# Altium footprint library 2.54MM_弯针.PcbLib: 19 footprints (part 1 of 2)
Each footprint in its own frame and in the unit in brackets; x right, y up, seen from the top. Pads: shape width x height; smd on the part's side, far side on the other; paste and mask are expansions set on the pad; w line width, h text height; cw(c..) or ccw(c..) is an arc to the next point about the centre after c.
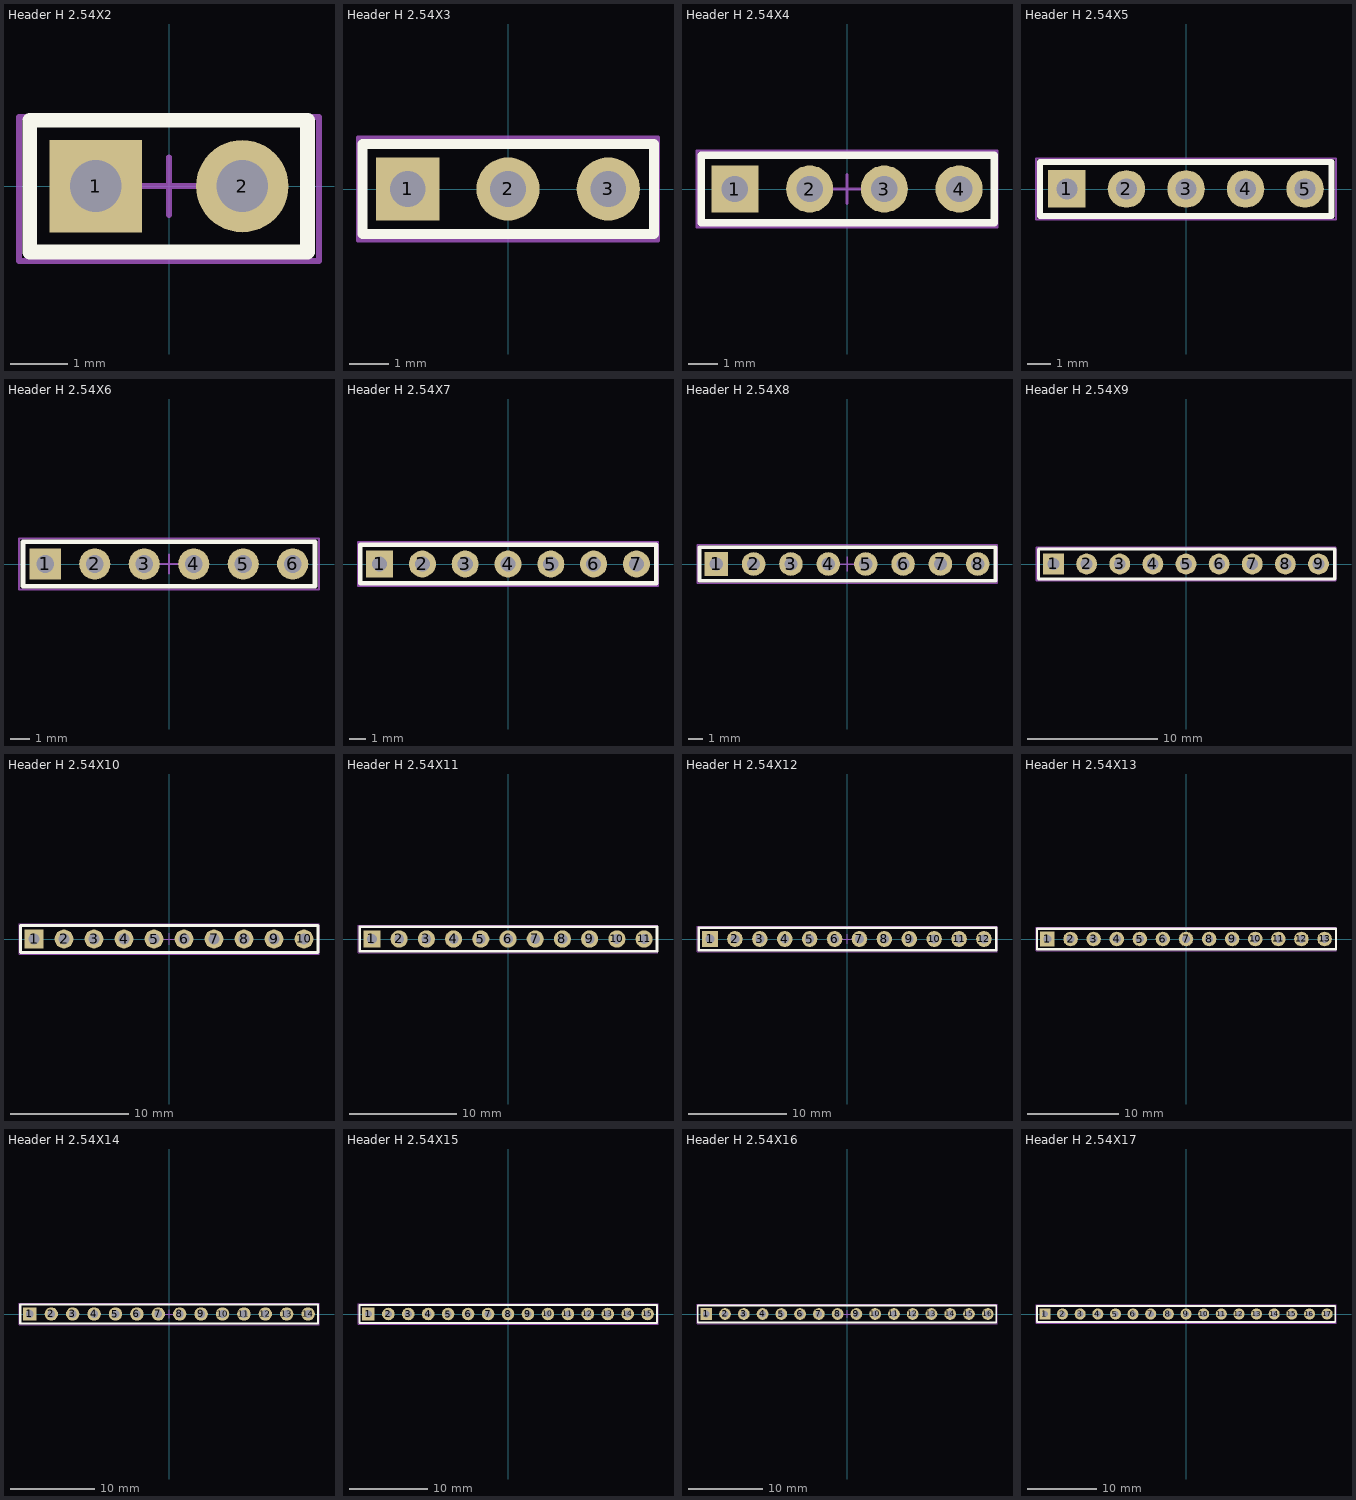
[diagram p0: the footprints below, top view; thin cyan lines are the x and y axes]

## Header H 2.54X2 [mm]
pads (2):
  rect 1.6x1.6 hole 0.9: 1(-1.27,0)
  round 1.6 hole 0.9: 2(1.27,0)
Top Overlay:
  lines w0.254: -2.413,-1.143 -2.413,1.143 2.4,1.143 2.4,-1.143 -2.413,-1.143
Mechanical 15:
  lines w0.1: -0.5,0 0.5,0 ; 0,-0.5 0,0.5 ; -2.6,-1.3 -2.6,1.2 2.6,1.2 2.6,-1.3 -2.6,-1.3
3D body "HEADER 2H.STEP": height 4.43, standoff -2.9, extent -2.54,-1.27 2.54,7

## Header H 2.54X3 [mm]
pads (3):
  rect 1.6x1.6 hole 0.9: 1(-2.54,0)
  round 1.6 hole 0.9: 2(0,0) 3(2.54,0)
Top Overlay:
  lines w0.254: -3.683,-1.143 3.7,-1.143 3.7,1.143 -3.683,1.143 -3.683,-1.143
Mechanical 15:
  lines w0.1: -3.8,-1.3 3.8,-1.3 3.8,1.3 -3.8,1.3 -3.8,-1.3
3D body "HEADER 3H.STEP": height 4.43, standoff -2.9, extent -3.81,-1.26 3.81,7.01

## Header H 2.54X4 [mm]
pads (4):
  rect 1.6x1.6 hole 0.9: 1(-3.81,0)
  round 1.6 hole 0.9: 2(-1.27,0) 3(1.27,0) 4(3.81,0)
Top Overlay:
  lines w0.254: -4.953,-1.143 5,-1.143 5,1.143 -4.953,1.143 -4.953,-1.143
Mechanical 15:
  lines w0.1: -0.5,0 0.5,0 ; 0,-0.5 0,0.5 ; -5.1,-1.3 5.1,-1.3 5.1,1.3 -5.1,1.3 -5.1,-1.3
3D body "HEADER 4H.STEP": height 4.43, standoff -2.9, extent -5.08,-1.27 5.08,7

## Header H 2.54X5 [mm]
pads (5):
  rect 1.6x1.6 hole 0.9: 1(-5.08,0)
  round 1.6 hole 0.9: 2(-2.54,0) 3(0,0) 4(2.54,0) 5(5.08,0)
Top Overlay:
  lines w0.254: -6.223,-1.143 6.2,-1.143 6.2,1.143 -6.223,1.143 -6.223,-1.143
Mechanical 15:
  lines w0.1: -6.4,-1.3 6.4,-1.3 6.4,1.3 -6.4,1.3 -6.4,-1.3
3D body "HEADER 5H.STEP": height 4.43, standoff -2.9, extent -6.35,-1.26 6.35,7.01

## Header H 2.54X6 [mm]
pads (6):
  rect 1.6x1.6 hole 0.9: 1(-6.35,0)
  round 1.6 hole 0.9: 2(-3.81,0) 3(-1.27,0) 4(1.27,0) 5(3.81,0) 6(6.35,0)
Top Overlay:
  lines w0.254: -7.493,-1.143 7.5,-1.143 7.5,1.143 -7.493,1.143 -7.493,-1.143
Mechanical 15:
  lines w0.1: -0.5,0 0.5,0 ; 0,-0.5 0,0.5 ; -7.7,-1.3 7.7,-1.3 7.7,1.3 -7.7,1.3 -7.7,-1.3
3D body "HEADER 6H.STEP": height 4.43, standoff -2.9, extent -7.62,-1.27 7.62,7

## Header H 2.54X7 [mm]
pads (7):
  rect 1.6x1.6 hole 0.9: 1(-7.62,0)
  round 1.6 hole 0.9: 2(-5.08,0) 3(-2.54,0) 4(0,0) 5(2.54,0) 6(5.08,0) 7(7.62,0)
Top Overlay:
  lines w0.254: -8.763,-1.143 8.8,-1.143 8.8,1.143 -8.763,1.143 -8.763,-1.143
Mechanical 15:
  lines w0.1: -8.9,-1.3 8.9,-1.3 8.9,1.3 -8.9,1.3 -8.9,-1.3
3D body "HEADER 7H.STEP": height 4.43, standoff -2.9, extent -8.89,-1.26 8.89,7.01

## Header H 2.54X8 [mm]
pads (8):
  rect 1.6x1.6 hole 0.9: 1(-8.89,0)
  round 1.6 hole 0.9: 2(-6.35,0) 3(-3.81,0) 4(-1.27,0) 5(1.27,0) 6(3.81,0) 7(6.35,0) 8(8.89,0)
Top Overlay:
  lines w0.254: -10.033,-1.143 -10.033,1.143 10.1,1.143 10.1,-1.143 -10.033,-1.143
Mechanical 15:
  lines w0.1: -0.5,0 0.5,0 ; 0,-0.5 0,0.5 ; -10.2,-1.3 -10.2,1.3 10.2,1.3 10.2,-1.3 -10.2,-1.3
3D body "HEADER 8H.STEP": height 4.43, standoff -2.9, extent -10.16,-1.26 10.16,7.01

## Header H 2.54X9 [mm]
pads (9):
  rect 1.6x1.6 hole 0.9: 1(-10.16,0)
  round 1.6 hole 0.9: 2(-7.62,0) 3(-5.08,0) 4(-2.54,0) 5(0,0) 6(2.54,0) 7(5.08,0) 8(7.62,0) 9(10.16,0)
Top Overlay:
  lines w0.254: -11.303,-1.143 -11.303,1.143 11.4,1.143 11.4,-1.143 -11.303,-1.143
Mechanical 15:
  lines w0.1: -11.5,-1.3 -11.5,1.3 11.5,1.3 11.5,-1.3 -11.5,-1.3
3D body "HEADER 9H.STEP": height 4.43, standoff -2.9, extent -11.43,-1.27 11.43,7

## Header H 2.54X10 [mm]
pads (10):
  rect 1.6x1.6 hole 0.9: 1(-11.43,0)
  round 1.6 hole 0.9: 2(-8.89,0) 3(-6.35,0) 4(-3.81,0) 5(-1.27,0) 6(1.27,0) 7(3.81,0) 8(6.35,0) 9(8.89,0) 10(11.43,0)
Top Overlay:
  lines w0.254: -12.573,-1.143 12.6,-1.143 12.6,1.143 -12.573,1.143 -12.573,-1.143
Mechanical 15:
  lines w0.1: -0.5,0 0.5,0 ; 0,-0.5 0,0.5 ; -12.7,-1.3 12.7,-1.3 12.7,1.3 -12.7,1.3 -12.7,-1.3
3D body "HEADER 10H.STEP": height 4.43, standoff -2.9, extent -12.7,-1.27 12.7,7

## Header H 2.54X11 [mm]
pads (11):
  rect 1.6x1.6 hole 0.9: 1(-12.7,0)
  round 1.6 hole 0.9: 2(-10.16,0) 3(-7.62,0) 4(-5.08,0) 5(-2.54,0) 6(0,0) 7(2.54,0) 8(5.08,0) 9(7.62,0) 10(10.16,0) 11(12.7,0)
Top Overlay:
  lines w0.254: -13.843,-1.143 -13.843,1.143 13.9,1.143 13.9,-1.143 -13.843,-1.143
Mechanical 15:
  lines w0.1: -14,-1.3 -14,1.3 14,1.3 14,-1.3 -14,-1.3
3D body "HEADER 11H.STEP": height 4.43, standoff -2.9, extent -13.97,-1.27 13.97,7

## Header H 2.54X12 [mm]
pads (12):
  rect 1.6x1.6 hole 0.9: 1(-13.97,0)
  round 1.6 hole 0.9: 2(-11.43,0) 3(-8.89,0) 4(-6.35,0) 5(-3.81,0) 6(-1.27,0) 7(1.27,0) 8(3.81,0) 9(6.35,0) 10(8.89,0) 11(11.43,0) 12(13.97,0)
Top Overlay:
  lines w0.254: -15.113,-1.143 15.2,-1.143 15.2,1.143 -15.113,1.143 -15.113,-1.143
Mechanical 15:
  lines w0.1: -0.5,0 0.5,0 ; 0,-0.5 0,0.5 ; -15.3,-1.3 15.3,-1.3 15.3,1.3 -15.3,1.3 -15.3,-1.3
3D body "HEADER 12H.STEP": height 4.43, standoff -2.9, extent -15.24,-1.25 15.24,7.02

## Header H 2.54X13 [mm]
pads (13):
  rect 1.6x1.6 hole 0.9: 1(-15.24,0)
  round 1.6 hole 0.9: 2(-12.7,0) 3(-10.16,0) 4(-7.62,0) 5(-5.08,0) 6(-2.54,0) 7(0,0) 8(2.54,0) 9(5.08,0) 10(7.62,0) 11(10.16,0) 12(12.7,0) 13(15.24,0)
Top Overlay:
  lines w0.254: -16.383,-1.143 -16.383,1.143 16.5,1.143 16.5,-1.143 -16.383,-1.143
Mechanical 15:
  lines w0.1: -16.5,-1.3 -16.5,1.3 16.5,1.3 16.5,-1.3 -16.5,-1.3
3D body "HEADER 13H.STEP": height 4.43, standoff -2.9, extent -16.51,-1.27 16.51,7

## Header H 2.54X14 [mm]
pads (14):
  rect 1.6x1.6 hole 0.9: 1(-16.51,0)
  round 1.6 hole 0.9: 2(-13.97,0) 3(-11.43,0) 4(-8.89,0) 5(-6.35,0) 6(-3.81,0) 7(-1.27,0) 8(1.27,0) 9(3.81,0) 10(6.35,0) 11(8.89,0) 12(11.43,0) 13(13.97,0) 14(16.51,0)
Top Overlay:
  lines w0.254: -17.653,-1.143 17.7,-1.143 17.7,1.143 -17.653,1.143 -17.653,-1.143
Mechanical 15:
  lines w0.1: -0.5,0 0.5,0 ; 0,-0.5 0,0.5 ; -17.8,-1.3 17.8,-1.3 17.8,1.3 -17.8,1.3 -17.8,-1.3
3D body "HEADER 14H.STEP": height 4.43, standoff -2.9, extent -17.78,-1.25 17.78,7.02

## Header H 2.54X15 [mm]
pads (15):
  rect 1.6x1.6 hole 0.9: 1(-17.78,0)
  round 1.6 hole 0.9: 2(-15.24,0) 3(-12.7,0) 4(-10.16,0) 5(-7.62,0) 6(-5.08,0) 7(-2.54,0) 8(0,0) 9(2.54,0) 10(5.08,0) 11(7.62,0) 12(10.16,0) 13(12.7,0) 14(15.24,0) 15(17.78,0)
Top Overlay:
  lines w0.254: -18.923,-1.143 19,-1.143 19,1.143 -18.923,1.143 -18.923,-1.143
Mechanical 15:
  lines w0.1: -19.1,-1.3 19.1,-1.3 19.1,1.3 -19.1,1.3 -19.1,-1.3
3D body "HEADER 15H.STEP": height 4.43, standoff -2.9, extent -19.05,-1.27 19.05,7

## Header H 2.54X16 [mm]
pads (16):
  rect 1.6x1.6 hole 0.9: 1(-19.05,0)
  round 1.6 hole 0.9: 2(-16.51,0) 3(-13.97,0) 4(-11.43,0) 5(-8.89,0) 6(-6.35,0) 7(-3.81,0) 8(-1.27,0) 9(1.27,0) 10(3.81,0) 11(6.35,0) 12(8.89,0) 13(11.43,0) 14(13.97,0) 15(16.51,0) 16(19.05,0)
Top Overlay:
  lines w0.254: -20.193,-1.143 20.2,-1.143 20.2,1.143 -20.193,1.143 -20.193,-1.143
Mechanical 15:
  lines w0.1: -0.5,0 0.5,0 ; 0,-0.5 0,0.5 ; -20.3,-1.3 20.3,-1.3 20.3,1.3 -20.3,1.3 -20.3,-1.3
3D body "HEADER 16H.STEP": height 4.43, standoff -2.9, extent -20.32,-1.26 20.32,7.01

## Header H 2.54X17 [mm]
pads (17):
  rect 1.6x1.6 hole 0.9: 1(-20.32,0)
  round 1.6 hole 0.9: 2(-17.78,0) 3(-15.24,0) 4(-12.7,0) 5(-10.16,0) 6(-7.62,0) 7(-5.08,0) 8(-2.54,0) 9(0,0) 10(2.54,0) 11(5.08,0) 12(7.62,0) 13(10.16,0) 14(12.7,0) 15(15.24,0) 16(17.78,0) 17(20.32,0)
Top Overlay:
  lines w0.254: -21.463,-1.143 21.5,-1.143 21.5,1.143 -21.463,1.143 -21.463,-1.143
Mechanical 15:
  lines w0.1: -21.6,-1.3 21.6,-1.3 21.6,1.3 -21.6,1.3 -21.6,-1.3
3D body "HEADER 17H.STEP": height 4.43, standoff -2.9, extent -21.59,-1.27 21.59,7